# Altium schematic symbol library SCH - POWER - SWITCHMODE - TI TPS62510_DRC_10.SchLib: 1 symbol
Pins are listed as number, name and electrical type; pins without a type are passive.

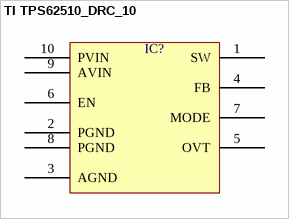
[diagram p0: symbol TI TPS62510_DRC_10]

## TI TPS62510_DRC_10
designator IC?  (value not drawn)
pins: 1 SW, 2 PGND, 3 AGND, 4 FB, 5 OVT, 6 EN, 7 MODE, 8 PGND, 9 AVIN, 10 PVIN